# Altium schematic symbol library protector.SchLib: 1 symbol
Pins are listed as number, name and electrical type; pins without a type are passive.

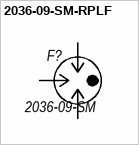
[diagram p0: symbol 2036-09-SM-RPLF]

## 2036-09-SM-RPLF
designator F?, comment 2036-09-SM
Gas Discharge Tubes 2036-09-SM-RPLF, 90VDC, 10KADC, 10AAC, 2pF, Solder Pad SMD 5x7.3mm; Manufacturer: Bourns; BOM1: SMD 5x7.3mm 2036-09-SM-RPLF; ValueBOM: 2036-09-SM-RPLF   Bourns; Part Number: 2036-09-SM-RPLF; Package: SMD 5x7.3mm; BOM2: SMD 5x7.3mm 2036-09-SM-RPLF; Value: 2036-09-SM
footprint GDT_2036-XX-SM
pins: 1, 2, 3